# EAGLE library part ADGX (library ADGx-QUADSW)
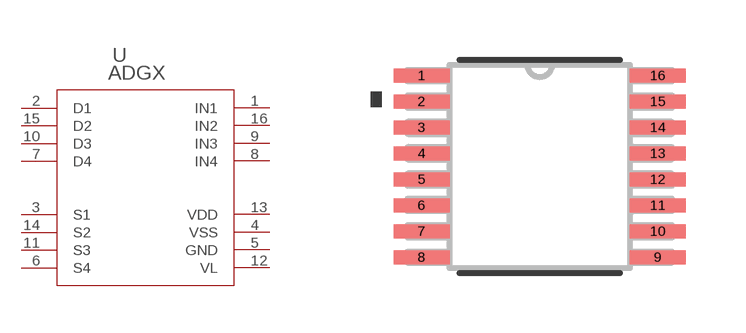
[diagram p0: symbol with the pads of TSSOP-16; footprint TSSOP-16]

Designator prefix -

## ADGX  [TSSOP-16]
1  IN1
2  D1
3  S1
4  VSS  pwr
5  GND  pas
6  S4
7  D4
8  IN4
9  IN3
10  D3
11  S3
12  VL  pas
13  VDD  pwr
14  S2
15  D2
16  IN2

## Footprint TSSOP-16 (pad centres in mm)
smd 1.406 x 0.351: 1 -2.953,2.275; 2 -2.953,1.625; 3 -2.953,0.975; 4 -2.953,0.325; 5 -2.953,-0.325; 6 -2.953,-0.975; 7 -2.953,-1.625; 8 -2.953,-2.275; 9 2.953,-2.275; 10 2.953,-1.625; 11 2.953,-0.975; 12 2.953,-0.325; 13 2.953,0.325; 14 2.953,0.975; 15 2.953,1.625; 16 2.953,2.275